# EAGLE library part MIC4605-2 (library Microchip)
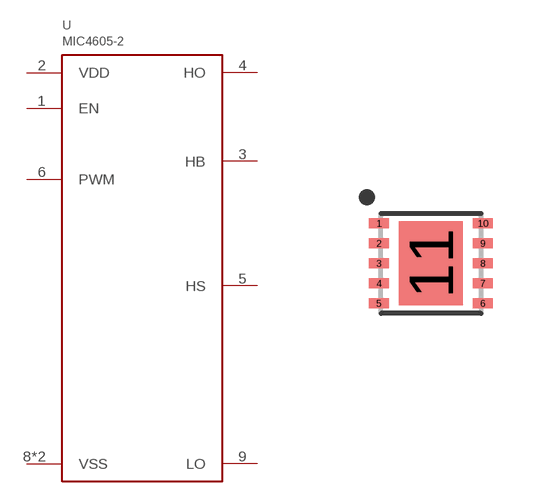
[diagram p47: symbol with the pads of TDFN10; footprint TDFN10]

Designator prefix U

## MIC4605-2  [TDFN10]
1  EN
2  VDD
3  HB
4  HO
5  HS
6  PWM
8  VSS
9  LO
11  VSS

## Footprint TDFN10 (pad centres in mm)
smd 0.5 x 0.25: 1 -1.3,1; 2 -1.3,0.5; 3 -1.3,0; 4 -1.3,-0.5; 5 -1.3,-1; 6 1.3,-1; 7 1.3,-0.5; 8 1.3,0; 9 1.3,0.5; 10 1.3,1
smd 1.6 x 2.1: 11 0,0